# EAGLE library part DF1B_L_6P (library user_conector)
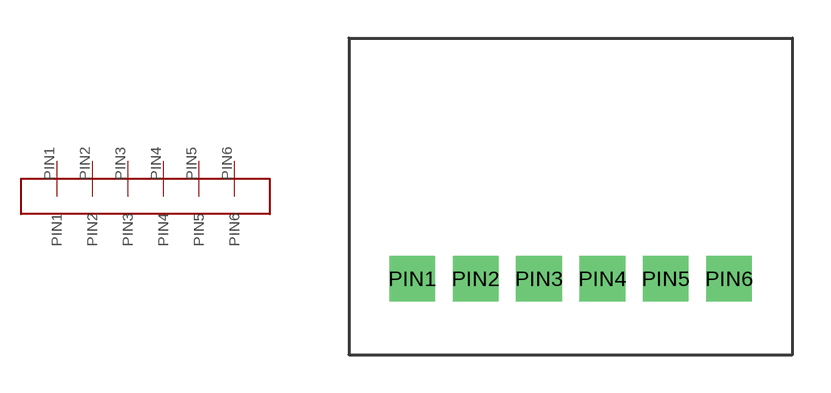
[diagram p2: symbol with the pads of DF1B_L_6P; footprint DF1B_L_6P]

Designator prefix -

## DF1B_L_6P  [DF1B_L_6P]
PIN1  PIN1
PIN2  PIN2
PIN3  PIN3
PIN4  PIN4
PIN5  PIN5
PIN6  PIN6

## Footprint DF1B_L_6P (pad centres in mm)
drill 1.2 square: PIN1 2.5,-9.5; PIN2 5,-9.5; PIN3 7.5,-9.5; PIN4 10,-9.5; PIN5 12.5,-9.5; PIN6 15,-9.5